# Altium schematic symbol library APTF1616SURKCGKSYKC.SchLib: 1 symbol
Pins are listed as number, name and electrical type; pins without a type are passive.

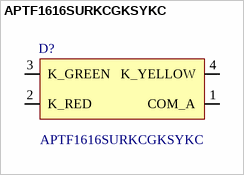
[diagram p0: symbol APTF1616SURKCGKSYKC]

## APTF1616SURKCGKSYKC
designator D?
Green, Red, Yellow 570nm Green, 630nm Red, 590nm Yellow LED Indication - Discrete 2.1V Green, 1.95V Red, 2V Yellow 4-SMD, No Lead; Manufacturer_Name: Kingbright; Geometry.Height: 0.9mm; Manufacturer_Part_Number: APTF1616SURKCGKSYKC; Mouser Part Number: 604-APTF1616KCGKSYKC; Mouser Price/Stock: https://www.mouser.co.uk/ProductDetail/Kingbright/APTF1616SURKCGKSYKC?qs=FESYatJ8odK7UleJtP4p0g%3D%3D; Arrow Part Number: APTF1616SURKCGKSYKC; Arrow Price/Stock: https://www.arrow.com/en/products/aptf1616surkcgksykc/kingbright?region=nac; Datasheet Link: https://www.kingbrightusa.com/images/catalog/SPEC/APTF1616SURKCGKSYKC.pdf
footprint APTF1616SURKCGKSYKC
pins: 1 COM_A, 2 K_RED, 3 K_GREEN, 4 K_YELLOW